# Altium schematic symbol library RES,2k2,0.1%,0.063W,0402.Schlib: 1 symbol
Pins are listed as number, name and electrical type; pins without a type are passive.

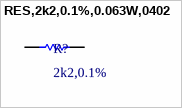
[diagram p0: symbol RES,2k2,0.1%,0.063W,0402]

## RES,2k2,0.1%,0.063W,0402
designator R?, comment 2k2,0.1%
2.2 kOhms ±0.1% 0.063W, 1/16W Chip Resistor 0402 (1005 Metric) Anti-Sulfur, Automotive AEC-Q200 Thin Film
pins: 1, 2